# Altium schematic symbol library ISO.SchLib: 1 symbol
Pins are listed as number, name and electrical type; pins without a type are passive.

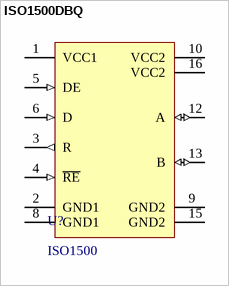
[diagram p0: symbol ISO1500DBQ]

## ISO1500DBQ
designator U?, comment ISO1500
Basic Isolated RS-485/RS-422 Transceiverin Ultra-Small Package
footprint SSOP16
pins: 1 VCC1 (power), 2 GND1 (power), 3 R (out), 4 ~{RE} (in), 5 DE (in), 6 D (in), 8 GND1 (power), 9 GND2 (power), 10 VCC2 (power), 12 A (io), 13 B (io), 15 GND2 (power), 16 VCC2 (power)